# EAGLE library part MC68HC908JB8E (library Freescale)
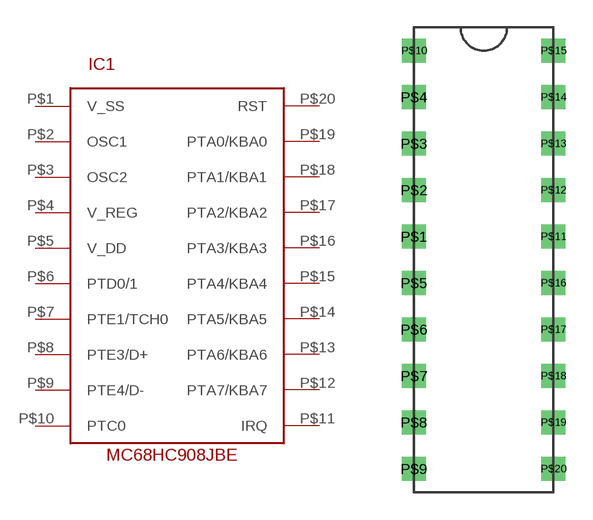
[diagram p4: symbol with the pads of PDIP-20; footprint PDIP-20]

Designator prefix -

## MC68HC908JB8EPDIP-20  [PDIP-20]
P$1  V_SS  pwr
P$2  OSC1
P$3  OSC2
P$4  V_REG
P$5  V_DD  pwr
P$6  PTD0/1
P$7  PTE1/TCH0
P$8  PTE3/D+
P$9  PTE4/D-
P$10  PTC0
P$11  IRQ
P$12  PTA7/KBA7
P$13  PTA6/KBA6
P$14  PTA5/KBA5
P$15  PTA4/KBA4
P$16  PTA3/KBA3
P$17  PTA2/KBA2
P$18  PTA1/KBA1
P$19  PTA0/KBA0
P$20  RST

## Footprint PDIP-20 (pad centres in mm)
drill 0.8 square: P$1 -3.81,1.27; P$2 -3.81,3.81; P$3 -3.81,6.35; P$4 -3.81,8.89; P$5 -3.81,-1.27; P$6 -3.81,-3.81; P$7 -3.81,-6.35; P$8 -3.81,-8.89; P$9 -3.81,-11.43; P$10 -3.81,11.43; P$11 3.81,1.27; P$12 3.81,3.81; P$13 3.81,6.35; P$14 3.81,8.89; P$15 3.81,11.43; P$16 3.81,-1.27; P$17 3.81,-3.81; P$18 3.81,-6.35; P$19 3.81,-8.89; P$20 3.81,-11.43